# EAGLE library part FTOP-8 (library con-amp)
AMP connector
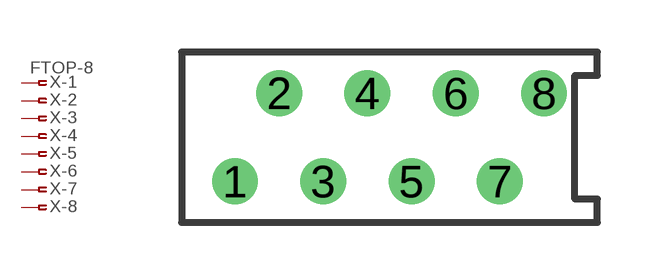
[diagram p103: symbol with the pads of FTOP-8; footprint FTOP-8]

Designator prefix X; gates -1=PIN-FV -2=PIN-F -3=PIN-F -4=PIN-F -5=PIN-F -6=PIN-F -7=PIN-F -8=PIN-F

## FTOP-8 (OC_FARNELL: unknown; OC_NEWARK: unknown)  [FTOP-8]
1  -1:1  pas
2  -2:1  pas
3  -3:1  pas
4  -4:1  pas
5  -5:1  pas
6  -6:1  pas
7  -7:1  pas
8  -8:1  pas

## Footprint FTOP-8 (pad centres in mm)
AMP connector
drill 0.813 round: 1 -4.445,-1.27; 2 -3.175,1.27; 3 -1.905,-1.27; 4 -0.635,1.27; 5 0.635,-1.27; 6 1.905,1.27; 7 3.175,-1.27; 8 4.445,1.27